# Altium footprint library 1048.PcbLib: 1 footprints
Each footprint in its own frame and in the unit in brackets; x right, y up, seen from the top. Pads: shape width x height; smd on the part's side, far side on the other; paste and mask are expansions set on the pad; w line width, h text height; cw(c..) or ccw(c..) is an arc to the next point about the centre after c.
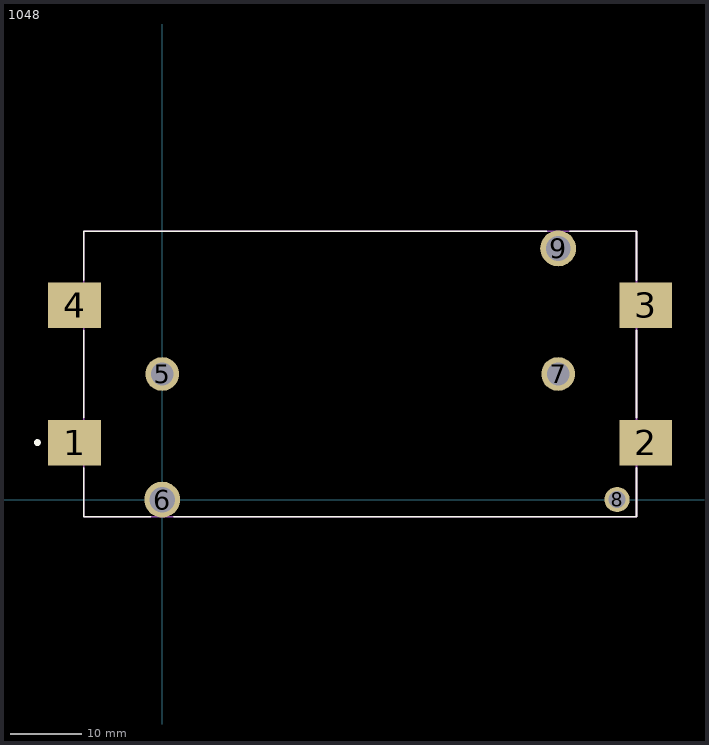
[diagram p0: the footprint, top view; thin cyan lines are the x and y axes]

## 1048 [mm]
pads (9):
  rect 7.34x6.35 smd: 1(-12.225,7.95) 2(67.425,7.95) 3(67.425,27.06) 4(-12.225,27.06)
  round 4.7 hole 3.17: 5(0,17.505) 7(55.2,17.505)
  round 5 hole 3.54: 6(0,0)
  round 3.5 hole 2.39: 8(63.42,0)
  round 5 hole 3.45: 9(55.2,35.01)
Top Overlay:
  circle w0.5: c-17.399,7.948 r0.225
  lines w0.25: -10.93,4.405 -10.93,-2.385 -1.6,-2.385 ; -10.93,11.436 -10.93,23.574 ; -10.93,30.605 -10.93,37.395 53.6,37.395 ; 1.6,-2.385 66.13,-2.385 66.13,4.405 ; 56.8,37.395 66.13,37.395 66.13,30.605 ; 66.13,11.436 66.13,23.574
Mechanical 15:
  lines w0.25: -10.93,-2.385 66.13,-2.385 66.13,37.395 -10.93,37.395 -10.93,-2.385